# EAGLE library part LOGIC,DELAYLINE,SER-PAR (library QuantumOptics)
Programmable delay line, e.g. Maxim DS1123 (0.25nS steps).
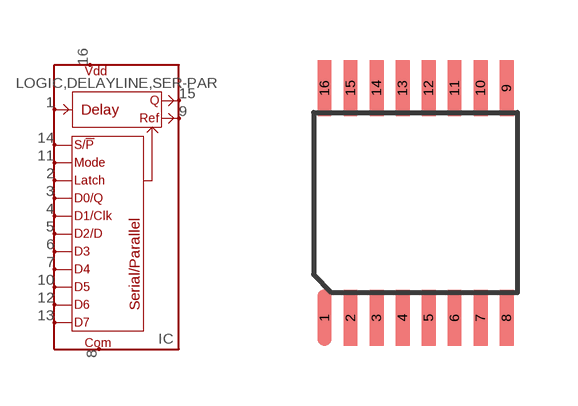
[diagram p159: symbol with the pads of TSSOP-16; footprint TSSOP-16]

Designator prefix IC

## LOGIC,DELAYLINE,SER-PAR  [TSSOP-16]
1  IN  in
2  LATCH  in
3  D0  in
4  D1  in
5  D2  in
6  D3  in
7  D4  in
8  COM
9  REF  out
10  D5  in
11  MODE  in
12  D6  in
13  D7  in
14  S/!P  in
15  OUT  out
16  VDD

## Footprint TSSOP-16 (pad centres in mm)
TSSOP-16, based on Maxim with 4.4mm body.
smd 0.35 x 1.4: 1 -2.275,-2.875; 2 -1.625,-2.875; 3 -0.975,-2.875; 4 -0.325,-2.875; 5 0.325,-2.875; 6 0.975,-2.875; 7 1.625,-2.875; 8 2.275,-2.875; 9 2.275,2.875; 10 1.625,2.875; 11 0.975,2.875; 12 0.325,2.875; 13 -0.325,2.875; 14 -0.975,2.875; 15 -1.625,2.875; 16 -2.275,2.875